# Altium footprint library PcbLib1.PcbLib: 2 footprints
Each footprint in its own frame and in the unit in brackets; x right, y up, seen from the top. Pads: shape width x height; smd on the part's side, far side on the other; paste and mask are expansions set on the pad; w line width, h text height; cw(c..) or ccw(c..) is an arc to the next point about the centre after c.
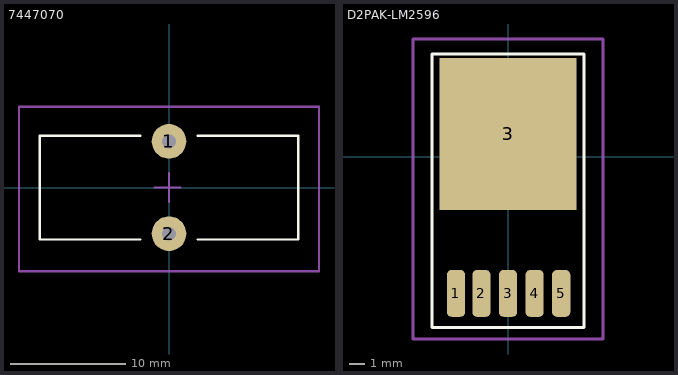
[diagram p0: the footprints below, top view; thin cyan lines are the x and y axes]

## 7447070 [mm] "0.984\" Dia x 0.433\" W (25.00mm x 11.00mm)"
height 25
pads (2):
  round 3 hole 1.2: 1(0,4) 2(0,-4)
Top Overlay:
  lines w0.2: -2.5,-4.496 -11.209,-4.496 -11.209,4.5 -2.5,4.5 ; 2.5,-4.5 11.209,-4.5 11.209,4.496 2.5,4.496
Mechanical 15 (Mech15):
  lines w0.2: -1.25,0 1,0 ; 0,-1.25 0,1.25 ; -13,-7.25 -13,7 -2.5,7 13,7 13,-7.25 -13,-7.25
3D body "7447070_Download_STP_7447070_rev1.stp": height 22.21, standoff -14.69, extent -11.209,-4.496 11.209,4.496

## D2PAK-LM2596 [mm]
pads (6):
  rrect50% 1.2x3.075 smd: 1(-3.425,-9) 2(-1.75,-9) 3(0,-9) 4(1.75,-9) 5(3.5,-9)
  rect 9x10 smd: 3(0,1.5)
Top Overlay:
  lines w0.2: -5,-4.5 -5,6.75 5,6.75 5,-11.25 -5,-11.25 -5,-4
Mechanical 15 (Mech15):
  lines w0.2: -6.25,-2.5 -6.25,7.75 6.25,7.75 6.25,-12 -6.25,-12 -6.25,-1.75 ; -1.25,0 1.25,0 ; 0,-1.25 0,1.5
3D body "TO263-5-1.stp": height 4.22, standoff 0, extent -4.911,-9.561 4.911,5.041